# EAGLE library part XFMR_FLAT_2.5VA (library wheat)
XFMR, FLAT 2.5VA
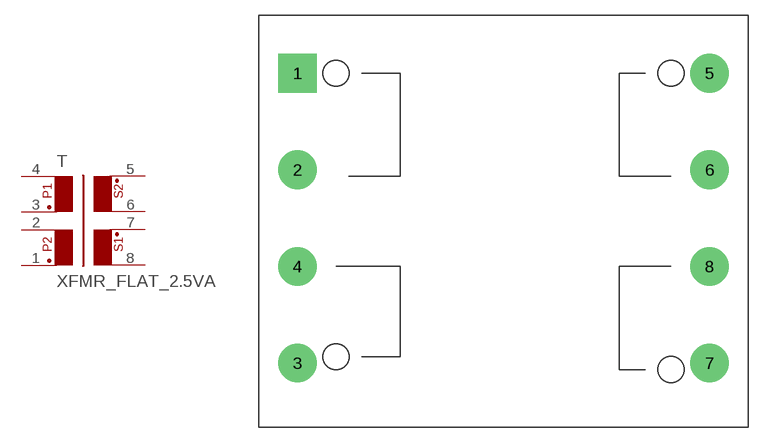
[diagram p21: symbol with the pads of XFMR_FLAT_2.5VA; footprint XFMR_FLAT_2.5VA]

Designator prefix T

## XFMR_FLAT_2.5VA  [XFMR_FLAT_2.5VA]
1  1  pas
2  2  pas
3  3  pas
4  4  pas
5  5  pas
6  6  pas
7  7  pas
8  8  pas

## Footprint XFMR_FLAT_2.5VA (pad centres in mm)
XFMR, FLAT 2.5VA
drill 1.778 pad 3.81 square: 1 -20.32,0
drill 1.778 pad 3.81: 2 -20.32,-9.525; 3 -20.32,-28.575; 4 -20.32,-19.05; 5 20.32,0; 6 20.32,-9.525; 7 20.32,-28.575; 8 20.32,-19.05